# EAGLE library part TJA1020T (library IC)
Transiceiver Interface between the LIN master/slave protocol controller and the physical bus in the Local Interconnect Controller (LIN).
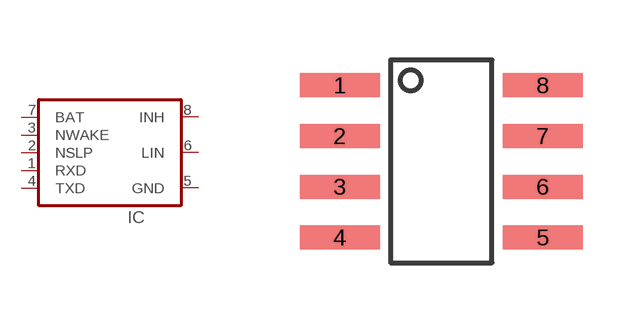
[diagram p33: symbol with the pads of SO8; footprint SO8]

Designator prefix IC

## TJA1020T  [SO8]
1  RXD
2  NSLP
3  NWAKE
4  TXD
5  GND
6  LIN
7  BAT
8  INH

## Footprint SO8 (pad centres in mm)
smd 2 x 0.6: 1 -2.54,1.905; 2 -2.54,0.635; 3 -2.54,-0.635; 4 -2.54,-1.905; 5 2.54,-1.905; 6 2.54,-0.635; 7 2.54,0.635; 8 2.54,1.905